# Altium footprint library PTV09A-2.PcbLib: 1 footprints
Each footprint in its own frame and in the unit in brackets; x right, y up, seen from the top. Pads: shape width x height; smd on the part's side, far side on the other; paste and mask are expansions set on the pad; w line width, h text height; cw(c..) or ccw(c..) is an arc to the next point about the centre after c.
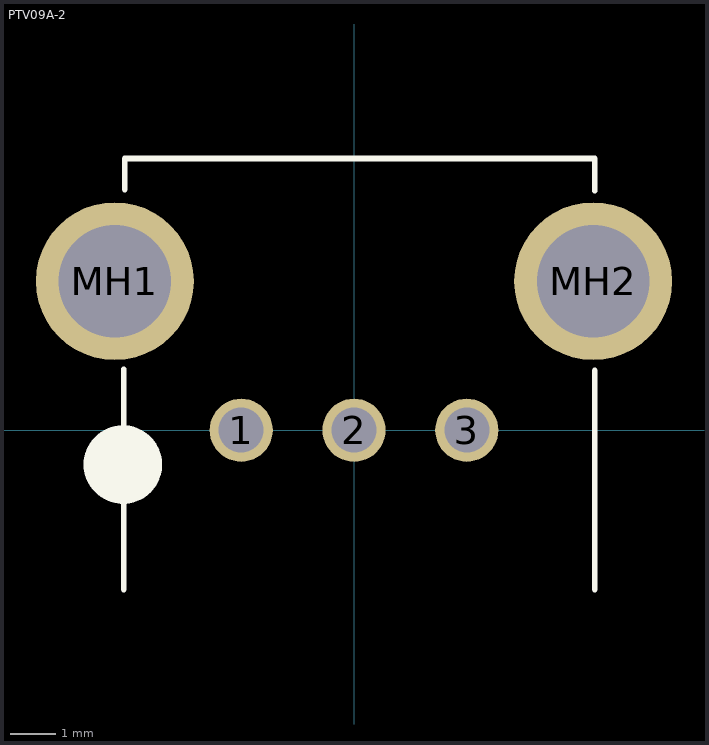
[diagram p0: the footprint, top view; thin cyan lines are the x and y axes]

## PTV09A-2 [mm] "Boruns Potentiometer"
height 16.5
pads (5):
  round 1.4 hole 1: 1(-2.5,0) 2(0,0) 3(2.5,0)
  round 3.5 hole 2.5: MH1(-5.3,3.3) MH2(5.3,3.3)
Top Overlay:
  circle w1: c-5.12,-0.762 r0.37
  lines w0.125: -5.105,-3.531 -5.105,1.346 ; -5.08,5.334 -5.08,6.02 5.334,6.02 5.334,5.309 ; 5.334,-3.531 5.334,1.321
Mechanical 1:
  lines w0.05: -5.08,6.02 5.334,6.02
3D body "ptv09a-2015s.stp": height 15.5, standoff -3.8, extent -5.232,-11.659 5.233,5.941